# Altium schematic symbol library Transistors.SchLib: 4 symbols
Pins are listed as number, name and electrical type; pins without a type are passive.

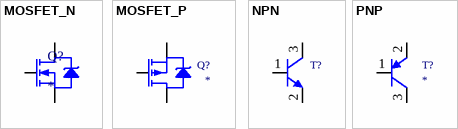
[diagram p0: symbols MOSFET_N to PNP]

## MOSFET_N
designator Q?
pins: D, G, S

## MOSFET_P
designator Q?
pins: D, G, S

## NPN
designator T?  (value not drawn)
pins: 1 B, 2 E, 3 C

## PNP
designator T?
pins: 1 B, 2 E, 3 C